# Altium footprint library WA-SMSI.PcbLib: 42 footprints (part 3 of 3)
Each footprint in its own frame and in the unit in brackets; x right, y up, seen from the top. Pads: shape width x height; smd on the part's side, far side on the other; paste and mask are expansions set on the pad; w line width, h text height; cw(c..) or ccw(c..) is an arc to the next point about the centre after c.
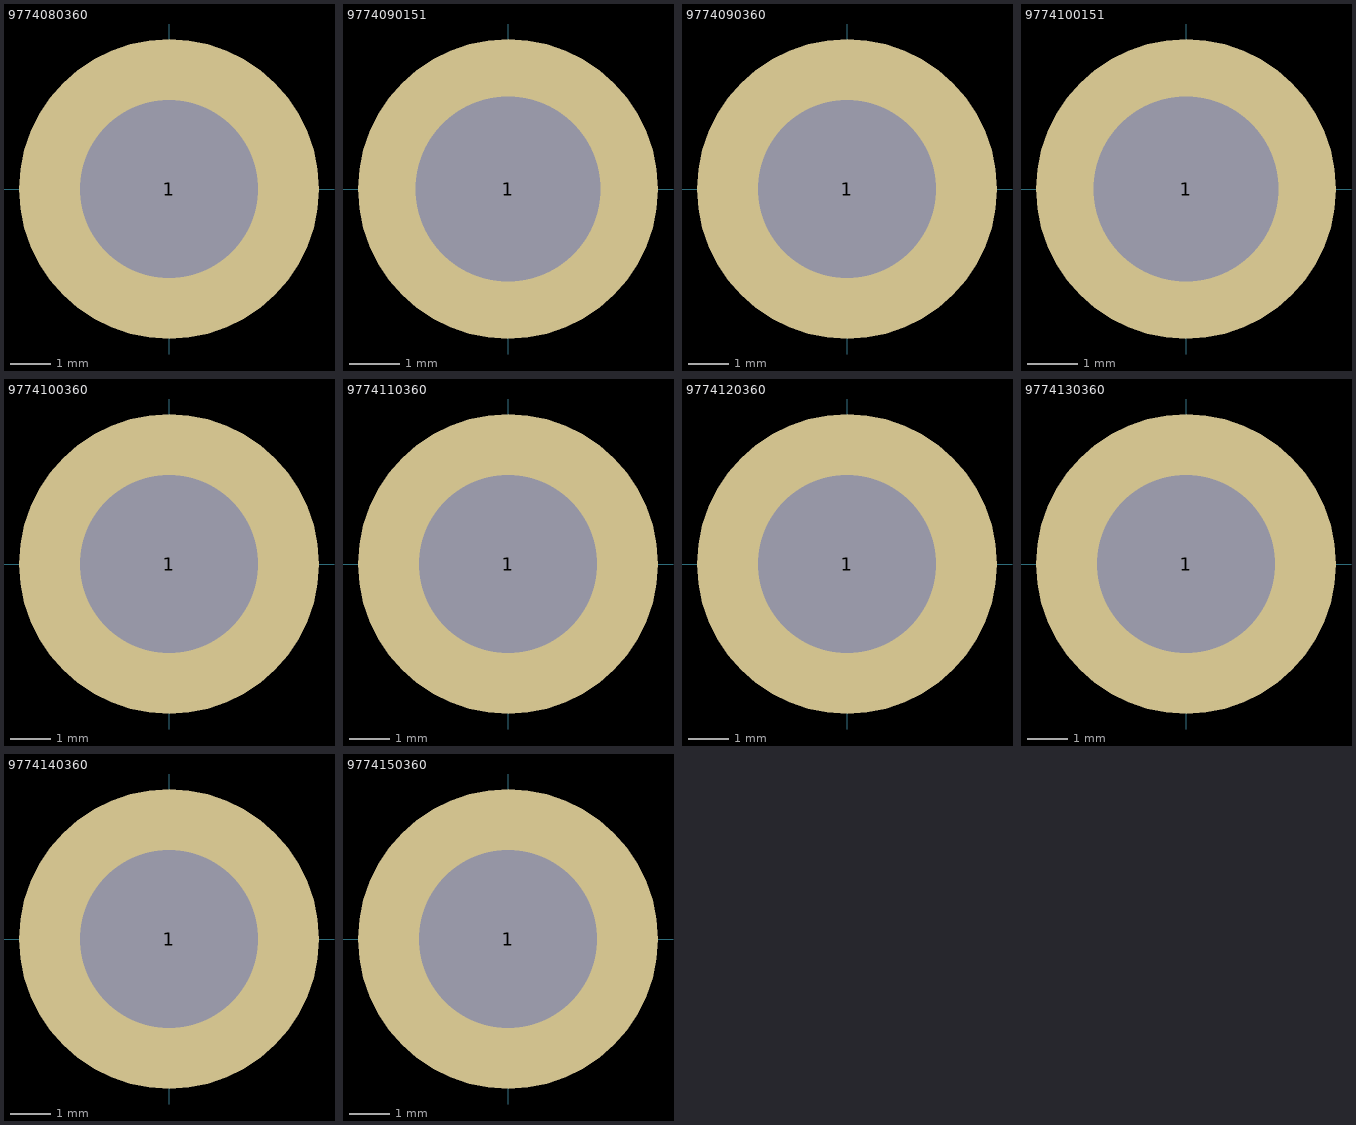
[diagram p2: the footprints below, top view; thin cyan lines are the x and y axes]

## 9774080360 [mm] "M3 Thread Internal, Length 8mm"
height 8
pads (1):
  round 7.4 / inner round 0 / far side round 0 hole 4.4 unplated paste-403.566: 1(0,0)
Top Paste:
  region: 0.25,3.641 0.25,2.236 0.437,2.207 0.801,2.102 1.143,1.938 1.452,1.719 1.719,1.451 1.938,1.142 2.103,0.801 2.207,0.437 2.236,0.25 3.641,0.25 3.626,0.468 3.545,0.897 3.413,1.313 3.232,1.71 3.005,2.083 2.735,2.426 2.427,2.735 2.083,3.005 1.71,3.232 1.313,3.413 0.897,3.545 0.468,3.626
  region: 3.641,-0.25 2.236,-0.25 2.207,-0.437 2.102,-0.801 1.938,-1.143 1.719,-1.452 1.451,-1.719 1.142,-1.938 0.801,-2.103 0.437,-2.207 0.25,-2.236 0.25,-3.641 0.468,-3.626 0.897,-3.545 1.313,-3.413 1.71,-3.232 2.083,-3.005 2.426,-2.735 2.735,-2.427 3.005,-2.083 3.232,-1.71 3.413,-1.313 3.545,-0.897 3.626,-0.468
  region: -0.25,-3.641 -0.25,-2.236 -0.437,-2.207 -0.801,-2.102 -1.143,-1.938 -1.452,-1.719 -1.719,-1.451 -1.938,-1.142 -2.103,-0.801 -2.207,-0.437 -2.236,-0.25 -3.641,-0.25 -3.626,-0.468 -3.545,-0.897 -3.413,-1.313 -3.232,-1.71 -3.005,-2.083 -2.735,-2.426 -2.427,-2.735 -2.083,-3.005 -1.71,-3.232 -1.313,-3.413 -0.897,-3.545 -0.468,-3.626
  region: -3.641,0.25 -2.236,0.25 -2.207,0.437 -2.102,0.801 -1.938,1.143 -1.719,1.452 -1.451,1.719 -1.142,1.938 -0.801,2.103 -0.437,2.207 -0.25,2.236 -0.25,3.641 -0.468,3.626 -0.897,3.545 -1.313,3.413 -1.71,3.232 -2.083,3.005 -2.426,2.735 -2.735,2.427 -3.005,2.083 -3.232,1.71 -3.413,1.313 -3.545,0.897 -3.626,0.468
Mechanical 13:
  circle w0.15: c0,0 r3
3D body "9774080360.stp": height 8.01, standoff -1.39, extent -2.994,-3 2.994,2.976

## 9774090151 [mm] "M2.5 Thread Internal, Length 9mm"
height 9
pads (1):
  round 6 / inner round 0 / far side round 0 hole 3.7 unplated paste-403.566: 1(0,0)
Top Paste:
  region: 0.25,2.939 0.508,2.917 1.009,2.784 1.478,2.566 1.903,2.269 2.269,1.903 2.566,1.478 2.784,1.009 2.917,0.508 2.939,0.25 1.883,0.25 1.857,0.403 1.767,0.699 1.629,0.977 1.449,1.229 1.229,1.449 0.977,1.629 0.7,1.767 0.403,1.857 0.25,1.883
  region: -2.939,0.25 -2.917,0.508 -2.784,1.009 -2.566,1.478 -2.269,1.903 -1.903,2.269 -1.478,2.566 -1.009,2.784 -0.508,2.917 -0.25,2.939 -0.25,1.883 -0.403,1.857 -0.699,1.767 -0.977,1.629 -1.229,1.449 -1.449,1.229 -1.629,0.977 -1.767,0.7 -1.857,0.403 -1.883,0.25
  region: -0.25,-2.939 -0.508,-2.917 -1.009,-2.784 -1.478,-2.566 -1.903,-2.269 -2.269,-1.903 -2.566,-1.478 -2.784,-1.009 -2.917,-0.508 -2.939,-0.25 -1.883,-0.25 -1.857,-0.403 -1.767,-0.699 -1.629,-0.977 -1.449,-1.229 -1.229,-1.449 -0.977,-1.629 -0.7,-1.767 -0.403,-1.857 -0.25,-1.883
  region: 2.939,-0.25 2.917,-0.508 2.784,-1.009 2.566,-1.478 2.269,-1.903 1.903,-2.269 1.478,-2.566 1.009,-2.784 0.508,-2.917 0.25,-2.939 0.25,-1.883 0.403,-1.857 0.699,-1.767 0.977,-1.629 1.229,-1.449 1.449,-1.229 1.629,-0.977 1.767,-0.7 1.857,-0.403 1.883,-0.25
Mechanical 13:
  circle w0.15: c0,0 r2.55
3D body "9774090151.stp": height 9.01, standoff -1.39, extent -2.55,-2.545 2.53,2.545

## 9774090360 [mm] "M3 Thread Internal, Length 9mm"
height 9
pads (1):
  round 7.4 / inner round 0 / far side round 0 hole 4.4 unplated paste-403.566: 1(0,0)
Top Paste:
  region: -3.641,0.25 -2.236,0.25 -2.207,0.437 -2.102,0.801 -1.938,1.143 -1.719,1.452 -1.451,1.719 -1.142,1.938 -0.801,2.103 -0.437,2.207 -0.25,2.236 -0.25,3.641 -0.468,3.626 -0.897,3.545 -1.313,3.413 -1.71,3.232 -2.083,3.005 -2.426,2.735 -2.735,2.427 -3.005,2.083 -3.232,1.71 -3.413,1.313 -3.545,0.897 -3.626,0.468
  region: -0.25,-3.641 -0.25,-2.236 -0.437,-2.207 -0.801,-2.102 -1.143,-1.938 -1.452,-1.719 -1.719,-1.451 -1.938,-1.142 -2.103,-0.801 -2.207,-0.437 -2.236,-0.25 -3.641,-0.25 -3.626,-0.468 -3.545,-0.897 -3.413,-1.313 -3.232,-1.71 -3.005,-2.083 -2.735,-2.426 -2.427,-2.735 -2.083,-3.005 -1.71,-3.232 -1.313,-3.413 -0.897,-3.545 -0.468,-3.626
  region: 3.641,-0.25 2.236,-0.25 2.207,-0.437 2.102,-0.801 1.938,-1.143 1.719,-1.452 1.451,-1.719 1.142,-1.938 0.801,-2.103 0.437,-2.207 0.25,-2.236 0.25,-3.641 0.468,-3.626 0.897,-3.545 1.313,-3.413 1.71,-3.232 2.083,-3.005 2.426,-2.735 2.735,-2.427 3.005,-2.083 3.232,-1.71 3.413,-1.313 3.545,-0.897 3.626,-0.468
  region: 0.25,3.641 0.25,2.236 0.437,2.207 0.801,2.102 1.143,1.938 1.452,1.719 1.719,1.451 1.938,1.142 2.103,0.801 2.207,0.437 2.236,0.25 3.641,0.25 3.626,0.468 3.545,0.897 3.413,1.313 3.232,1.71 3.005,2.083 2.735,2.426 2.427,2.735 2.083,3.005 1.71,3.232 1.313,3.413 0.897,3.545 0.468,3.626
Mechanical 13:
  circle w0.15: c0,0 r3
3D body "9774090360.stp": height 9.01, standoff -1.39, extent -2.994,-3 2.994,2.976

## 9774100151 [mm] "M2.5 Thread Internal, Length 10mm"
height 10
pads (1):
  round 6 / inner round 0 / far side round 0 hole 3.7 unplated paste-403.566: 1(0,0)
Top Paste:
  region: 0.25,2.939 0.508,2.917 1.009,2.784 1.478,2.566 1.903,2.269 2.269,1.903 2.566,1.478 2.784,1.009 2.917,0.508 2.939,0.25 1.883,0.25 1.857,0.403 1.767,0.699 1.629,0.977 1.449,1.229 1.229,1.449 0.977,1.629 0.7,1.767 0.403,1.857 0.25,1.883
  region: -2.939,0.25 -2.917,0.508 -2.784,1.009 -2.566,1.478 -2.269,1.903 -1.903,2.269 -1.478,2.566 -1.009,2.784 -0.508,2.917 -0.25,2.939 -0.25,1.883 -0.403,1.857 -0.699,1.767 -0.977,1.629 -1.229,1.449 -1.449,1.229 -1.629,0.977 -1.767,0.7 -1.857,0.403 -1.883,0.25
  region: -0.25,-2.939 -0.508,-2.917 -1.009,-2.784 -1.478,-2.566 -1.903,-2.269 -2.269,-1.903 -2.566,-1.478 -2.784,-1.009 -2.917,-0.508 -2.939,-0.25 -1.883,-0.25 -1.857,-0.403 -1.767,-0.699 -1.629,-0.977 -1.449,-1.229 -1.229,-1.449 -0.977,-1.629 -0.7,-1.767 -0.403,-1.857 -0.25,-1.883
  region: 2.939,-0.25 2.917,-0.508 2.784,-1.009 2.566,-1.478 2.269,-1.903 1.903,-2.269 1.478,-2.566 1.009,-2.784 0.508,-2.917 0.25,-2.939 0.25,-1.883 0.403,-1.857 0.699,-1.767 0.977,-1.629 1.229,-1.449 1.449,-1.229 1.629,-0.977 1.767,-0.7 1.857,-0.403 1.883,-0.25
Mechanical 13:
  circle w0.15: c0,0 r2.55
3D body "9774100151.stp": height 10.01, standoff -1.39, extent -2.55,-2.545 2.53,2.545

## 9774100360 [mm] "M3 Thread Internal, Length 10mm"
height 10
pads (1):
  round 7.4 / inner round 0 / far side round 0 hole 4.4 unplated paste-403.566: 1(0,0)
Top Paste:
  region: -3.641,0.25 -2.236,0.25 -2.207,0.437 -2.102,0.801 -1.938,1.143 -1.719,1.452 -1.451,1.719 -1.142,1.938 -0.801,2.103 -0.437,2.207 -0.25,2.236 -0.25,3.641 -0.468,3.626 -0.897,3.545 -1.313,3.413 -1.71,3.232 -2.083,3.005 -2.426,2.735 -2.735,2.427 -3.005,2.083 -3.232,1.71 -3.413,1.313 -3.545,0.897 -3.626,0.468
  region: -0.25,-3.641 -0.25,-2.236 -0.437,-2.207 -0.801,-2.102 -1.143,-1.938 -1.452,-1.719 -1.719,-1.451 -1.938,-1.142 -2.103,-0.801 -2.207,-0.437 -2.236,-0.25 -3.641,-0.25 -3.626,-0.468 -3.545,-0.897 -3.413,-1.313 -3.232,-1.71 -3.005,-2.083 -2.735,-2.426 -2.427,-2.735 -2.083,-3.005 -1.71,-3.232 -1.313,-3.413 -0.897,-3.545 -0.468,-3.626
  region: 3.641,-0.25 2.236,-0.25 2.207,-0.437 2.102,-0.801 1.938,-1.143 1.719,-1.452 1.451,-1.719 1.142,-1.938 0.801,-2.103 0.437,-2.207 0.25,-2.236 0.25,-3.641 0.468,-3.626 0.897,-3.545 1.313,-3.413 1.71,-3.232 2.083,-3.005 2.426,-2.735 2.735,-2.427 3.005,-2.083 3.232,-1.71 3.413,-1.313 3.545,-0.897 3.626,-0.468
  region: 0.25,3.641 0.25,2.236 0.437,2.207 0.801,2.102 1.143,1.938 1.452,1.719 1.719,1.451 1.938,1.142 2.103,0.801 2.207,0.437 2.236,0.25 3.641,0.25 3.626,0.468 3.545,0.897 3.413,1.313 3.232,1.71 3.005,2.083 2.735,2.426 2.427,2.735 2.083,3.005 1.71,3.232 1.313,3.413 0.897,3.545 0.468,3.626
Mechanical 13:
  circle w0.15: c0,0 r3
3D body "9774100360.stp": height 10.01, standoff -1.39, extent -2.994,-3 2.994,2.976

## 9774110360 [mm] "M3 Thread Internal, Length 11mm"
height 11
pads (1):
  round 7.4 / inner round 0 / far side round 0 hole 4.4 unplated paste-403.566: 1(0,0)
Top Paste:
  region: -3.641,0.25 -2.236,0.25 -2.207,0.437 -2.102,0.801 -1.938,1.143 -1.719,1.452 -1.451,1.719 -1.142,1.938 -0.801,2.103 -0.437,2.207 -0.25,2.236 -0.25,3.641 -0.468,3.626 -0.897,3.545 -1.313,3.413 -1.71,3.232 -2.083,3.005 -2.426,2.735 -2.735,2.427 -3.005,2.083 -3.232,1.71 -3.413,1.313 -3.545,0.897 -3.626,0.468
  region: -0.25,-3.641 -0.25,-2.236 -0.437,-2.207 -0.801,-2.102 -1.143,-1.938 -1.452,-1.719 -1.719,-1.451 -1.938,-1.142 -2.103,-0.801 -2.207,-0.437 -2.236,-0.25 -3.641,-0.25 -3.626,-0.468 -3.545,-0.897 -3.413,-1.313 -3.232,-1.71 -3.005,-2.083 -2.735,-2.426 -2.427,-2.735 -2.083,-3.005 -1.71,-3.232 -1.313,-3.413 -0.897,-3.545 -0.468,-3.626
  region: 3.641,-0.25 2.236,-0.25 2.207,-0.437 2.102,-0.801 1.938,-1.143 1.719,-1.452 1.451,-1.719 1.142,-1.938 0.801,-2.103 0.437,-2.207 0.25,-2.236 0.25,-3.641 0.468,-3.626 0.897,-3.545 1.313,-3.413 1.71,-3.232 2.083,-3.005 2.426,-2.735 2.735,-2.427 3.005,-2.083 3.232,-1.71 3.413,-1.313 3.545,-0.897 3.626,-0.468
  region: 0.25,3.641 0.25,2.236 0.437,2.207 0.801,2.102 1.143,1.938 1.452,1.719 1.719,1.451 1.938,1.142 2.103,0.801 2.207,0.437 2.236,0.25 3.641,0.25 3.626,0.468 3.545,0.897 3.413,1.313 3.232,1.71 3.005,2.083 2.735,2.426 2.427,2.735 2.083,3.005 1.71,3.232 1.313,3.413 0.897,3.545 0.468,3.626
Mechanical 13:
  circle w0.15: c0,0 r3
3D body "9774110360.stp": height 11.01, standoff -1.39, extent -2.994,-3 2.994,2.976

## 9774120360 [mm] "M3 Thread Internal, Length 12mm"
height 12
pads (1):
  round 7.4 / inner round 0 / far side round 0 hole 4.4 unplated paste-403.566: 1(0,0)
Top Paste:
  region: 0.25,3.641 0.25,2.236 0.437,2.207 0.801,2.102 1.143,1.938 1.452,1.719 1.719,1.451 1.938,1.142 2.103,0.801 2.207,0.437 2.236,0.25 3.641,0.25 3.626,0.468 3.545,0.897 3.413,1.313 3.232,1.71 3.005,2.083 2.735,2.426 2.427,2.735 2.083,3.005 1.71,3.232 1.313,3.413 0.897,3.545 0.468,3.626
  region: 3.641,-0.25 2.236,-0.25 2.207,-0.437 2.102,-0.801 1.938,-1.143 1.719,-1.452 1.451,-1.719 1.142,-1.938 0.801,-2.103 0.437,-2.207 0.25,-2.236 0.25,-3.641 0.468,-3.626 0.897,-3.545 1.313,-3.413 1.71,-3.232 2.083,-3.005 2.426,-2.735 2.735,-2.427 3.005,-2.083 3.232,-1.71 3.413,-1.313 3.545,-0.897 3.626,-0.468
  region: -0.25,-3.641 -0.25,-2.236 -0.437,-2.207 -0.801,-2.102 -1.143,-1.938 -1.452,-1.719 -1.719,-1.451 -1.938,-1.142 -2.103,-0.801 -2.207,-0.437 -2.236,-0.25 -3.641,-0.25 -3.626,-0.468 -3.545,-0.897 -3.413,-1.313 -3.232,-1.71 -3.005,-2.083 -2.735,-2.426 -2.427,-2.735 -2.083,-3.005 -1.71,-3.232 -1.313,-3.413 -0.897,-3.545 -0.468,-3.626
  region: -3.641,0.25 -2.236,0.25 -2.207,0.437 -2.102,0.801 -1.938,1.143 -1.719,1.452 -1.451,1.719 -1.142,1.938 -0.801,2.103 -0.437,2.207 -0.25,2.236 -0.25,3.641 -0.468,3.626 -0.897,3.545 -1.313,3.413 -1.71,3.232 -2.083,3.005 -2.426,2.735 -2.735,2.427 -3.005,2.083 -3.232,1.71 -3.413,1.313 -3.545,0.897 -3.626,0.468
Mechanical 13:
  circle w0.15: c0,0 r3
3D body "9774120360.stp": height 12.01, standoff -1.39, extent -2.994,-3 2.994,2.976

## 9774130360 [mm] "M3 Thread Internal, Length 13mm"
height 13
pads (1):
  round 7.4 / inner round 0 / far side round 0 hole 4.4 unplated paste-403.566: 1(0,0)
Top Paste:
  region: -3.641,0.25 -2.236,0.25 -2.207,0.437 -2.102,0.801 -1.938,1.143 -1.719,1.452 -1.451,1.719 -1.142,1.938 -0.801,2.103 -0.437,2.207 -0.25,2.236 -0.25,3.641 -0.468,3.626 -0.897,3.545 -1.313,3.413 -1.71,3.232 -2.083,3.005 -2.426,2.735 -2.735,2.427 -3.005,2.083 -3.232,1.71 -3.413,1.313 -3.545,0.897 -3.626,0.468
  region: -0.25,-3.641 -0.25,-2.236 -0.437,-2.207 -0.801,-2.102 -1.143,-1.938 -1.452,-1.719 -1.719,-1.451 -1.938,-1.142 -2.103,-0.801 -2.207,-0.437 -2.236,-0.25 -3.641,-0.25 -3.626,-0.468 -3.545,-0.897 -3.413,-1.313 -3.232,-1.71 -3.005,-2.083 -2.735,-2.426 -2.427,-2.735 -2.083,-3.005 -1.71,-3.232 -1.313,-3.413 -0.897,-3.545 -0.468,-3.626
  region: 3.641,-0.25 2.236,-0.25 2.207,-0.437 2.102,-0.801 1.938,-1.143 1.719,-1.452 1.451,-1.719 1.142,-1.938 0.801,-2.103 0.437,-2.207 0.25,-2.236 0.25,-3.641 0.468,-3.626 0.897,-3.545 1.313,-3.413 1.71,-3.232 2.083,-3.005 2.426,-2.735 2.735,-2.427 3.005,-2.083 3.232,-1.71 3.413,-1.313 3.545,-0.897 3.626,-0.468
  region: 0.25,3.641 0.25,2.236 0.437,2.207 0.801,2.102 1.143,1.938 1.452,1.719 1.719,1.451 1.938,1.142 2.103,0.801 2.207,0.437 2.236,0.25 3.641,0.25 3.626,0.468 3.545,0.897 3.413,1.313 3.232,1.71 3.005,2.083 2.735,2.426 2.427,2.735 2.083,3.005 1.71,3.232 1.313,3.413 0.897,3.545 0.468,3.626
Mechanical 13:
  circle w0.15: c0,0 r3
3D body "9774130360.stp": height 13.01, standoff -1.39, extent -2.994,-3 2.994,2.976

## 9774140360 [mm] "M3 Thread Internal, Length 14mm"
height 14
pads (1):
  round 7.4 / inner round 0 / far side round 0 hole 4.4 unplated paste-403.566: 1(0,0)
Top Paste:
  region: 0.25,3.641 0.25,2.236 0.437,2.207 0.801,2.102 1.143,1.938 1.452,1.719 1.719,1.451 1.938,1.142 2.103,0.801 2.207,0.437 2.236,0.25 3.641,0.25 3.626,0.468 3.545,0.897 3.413,1.313 3.232,1.71 3.005,2.083 2.735,2.426 2.427,2.735 2.083,3.005 1.71,3.232 1.313,3.413 0.897,3.545 0.468,3.626
  region: 3.641,-0.25 2.236,-0.25 2.207,-0.437 2.102,-0.801 1.938,-1.143 1.719,-1.452 1.451,-1.719 1.142,-1.938 0.801,-2.103 0.437,-2.207 0.25,-2.236 0.25,-3.641 0.468,-3.626 0.897,-3.545 1.313,-3.413 1.71,-3.232 2.083,-3.005 2.426,-2.735 2.735,-2.427 3.005,-2.083 3.232,-1.71 3.413,-1.313 3.545,-0.897 3.626,-0.468
  region: -0.25,-3.641 -0.25,-2.236 -0.437,-2.207 -0.801,-2.102 -1.143,-1.938 -1.452,-1.719 -1.719,-1.451 -1.938,-1.142 -2.103,-0.801 -2.207,-0.437 -2.236,-0.25 -3.641,-0.25 -3.626,-0.468 -3.545,-0.897 -3.413,-1.313 -3.232,-1.71 -3.005,-2.083 -2.735,-2.426 -2.427,-2.735 -2.083,-3.005 -1.71,-3.232 -1.313,-3.413 -0.897,-3.545 -0.468,-3.626
  region: -3.641,0.25 -2.236,0.25 -2.207,0.437 -2.102,0.801 -1.938,1.143 -1.719,1.452 -1.451,1.719 -1.142,1.938 -0.801,2.103 -0.437,2.207 -0.25,2.236 -0.25,3.641 -0.468,3.626 -0.897,3.545 -1.313,3.413 -1.71,3.232 -2.083,3.005 -2.426,2.735 -2.735,2.427 -3.005,2.083 -3.232,1.71 -3.413,1.313 -3.545,0.897 -3.626,0.468
Mechanical 13:
  circle w0.15: c0,0 r3
3D body "9774140360.stp": height 14.01, standoff -1.39, extent -2.994,-3 2.994,2.976

## 9774150360 [mm] "M3 Thread Internal, Length 15mm"
height 15
pads (1):
  round 7.4 / inner round 0 / far side round 0 hole 4.4 unplated paste-403.566: 1(0,0)
Top Paste:
  region: -3.641,0.25 -2.236,0.25 -2.207,0.437 -2.102,0.801 -1.938,1.143 -1.719,1.452 -1.451,1.719 -1.142,1.938 -0.801,2.103 -0.437,2.207 -0.25,2.236 -0.25,3.641 -0.468,3.626 -0.897,3.545 -1.313,3.413 -1.71,3.232 -2.083,3.005 -2.426,2.735 -2.735,2.427 -3.005,2.083 -3.232,1.71 -3.413,1.313 -3.545,0.897 -3.626,0.468
  region: -0.25,-3.641 -0.25,-2.236 -0.437,-2.207 -0.801,-2.102 -1.143,-1.938 -1.452,-1.719 -1.719,-1.451 -1.938,-1.142 -2.103,-0.801 -2.207,-0.437 -2.236,-0.25 -3.641,-0.25 -3.626,-0.468 -3.545,-0.897 -3.413,-1.313 -3.232,-1.71 -3.005,-2.083 -2.735,-2.426 -2.427,-2.735 -2.083,-3.005 -1.71,-3.232 -1.313,-3.413 -0.897,-3.545 -0.468,-3.626
  region: 3.641,-0.25 2.236,-0.25 2.207,-0.437 2.102,-0.801 1.938,-1.143 1.719,-1.452 1.451,-1.719 1.142,-1.938 0.801,-2.103 0.437,-2.207 0.25,-2.236 0.25,-3.641 0.468,-3.626 0.897,-3.545 1.313,-3.413 1.71,-3.232 2.083,-3.005 2.426,-2.735 2.735,-2.427 3.005,-2.083 3.232,-1.71 3.413,-1.313 3.545,-0.897 3.626,-0.468
  region: 0.25,3.641 0.25,2.236 0.437,2.207 0.801,2.102 1.143,1.938 1.452,1.719 1.719,1.451 1.938,1.142 2.103,0.801 2.207,0.437 2.236,0.25 3.641,0.25 3.626,0.468 3.545,0.897 3.413,1.313 3.232,1.71 3.005,2.083 2.735,2.426 2.427,2.735 2.083,3.005 1.71,3.232 1.313,3.413 0.897,3.545 0.468,3.626
Mechanical 13:
  circle w0.15: c0,0 r3
3D body "9774150360.stp": height 15.01, standoff -1.39, extent -2.994,-3 2.994,2.976